# Altium footprint library CN PCIE EDGE 36CKT.PcbLib: 1 footprints
Each footprint in its own frame and in the unit in brackets; x right, y up, seen from the top. Pads: shape width x height; smd on the part's side, far side on the other; paste and mask are expansions set on the pad; w line width, h text height; cw(c..) or ccw(c..) is an arc to the next point about the centre after c.
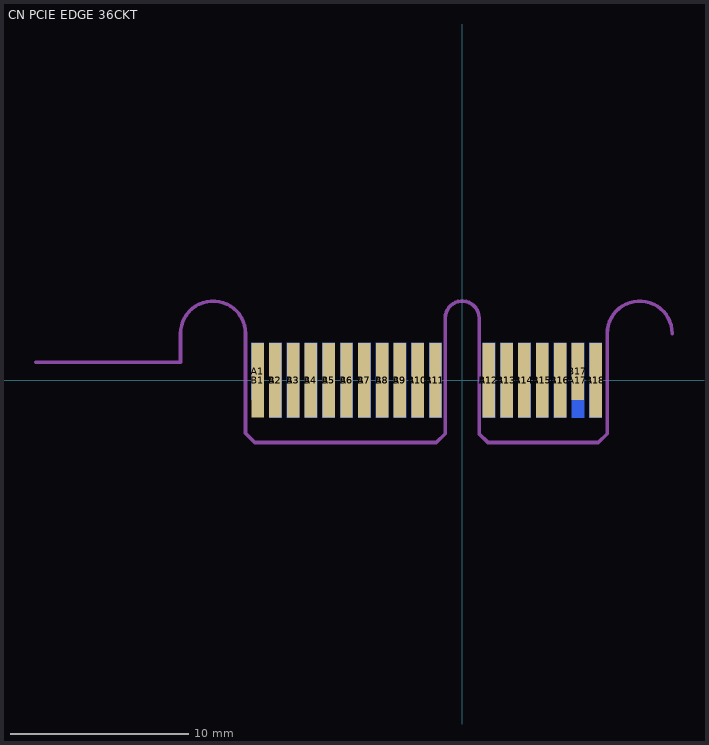
[diagram p0: the footprint, top view; thin cyan lines are the x and y axes]

## CN PCIE EDGE 36CKT [mm] "PCIE X1 36pin card edge"
pads (36):
  rect 0.7x3.2 smd far side paste-1: A1(-11.5,0.5)
  rect 0.7x4.2 smd far side paste-1: A2(-10.5,0) A3(-9.5,0) A4(-8.5,0) A5(-7.5,0) A6(-6.5,0) A7(-5.5,0) A8(-4.5,0) A9(-3.5,0) A10(-2.5,0) A11(-1.5,0) A12(1.5,0) A13(2.5,0) A14(3.5,0) A15(4.5,0) A16(5.5,0) A17(6.5,0) A18(7.5,0)
  rect 0.7x4.2 smd paste-1: B1(-11.5,0) B2(-10.5,0) B3(-9.5,0) B4(-8.5,0) B5(-7.5,0) B6(-6.5,0) B7(-5.5,0) B8(-4.5,0) B9(-3.5,0) B10(-2.5,0) B11(-1.5,0) B12(1.5,0) B13(2.5,0) B14(3.5,0) B15(4.5,0) B16(5.5,0) B18(7.5,0)
  rect 0.7x3.2 smd paste-1: B17(6.5,0.5)
Top Solder:
  rectangle: -12.4,-3.75 8.4,2.225
Bottom Solder:
  rectangle: -12.4,-3.75 8.4,2.225
Mechanical 1:
  lines w0.203: -12.175,-2.975 -12.15,-3
Mechanical 15:
  lines w0.203: -23.958,1 -15.825,1 -15.825,2.625 cw(c-14,2.625) -12.175,2.625 -12.175,-2.975 ; -12.15,-3 -11.65,-3.5 -1.45,-3.5 -0.95,-3 -0.95,3.5 cw(c0,3.5) 0.95,3.5 0.95,-3 1.45,-3.5 7.65,-3.5 8.15,-3 8.15,2.625 cw(c9.975,2.625) 11.8,2.625